# EAGLE library part 74HC393 (library IC)
Dual 4 Bit Counter Falling edge triggered Possitive logic Reset T varient is for Transistor logic other is CMOS
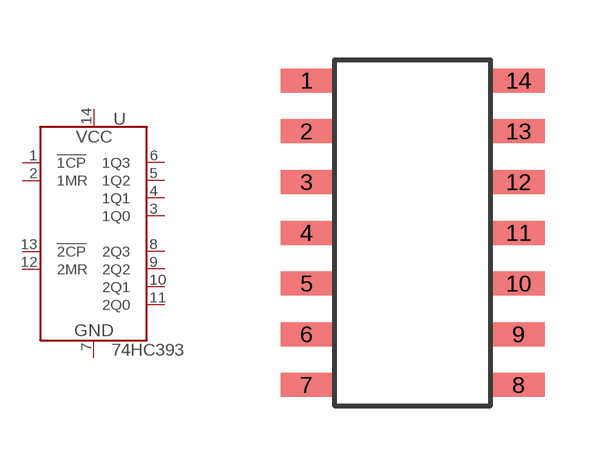
[diagram p14: symbol with the pads of SOIC-3.9MM-14; footprint SOIC-3.9MM-14]

Designator prefix U

## 74HC393D (MPN: 74HC393D,653), 74HC393TD  [SOIC-3.9MM-14]
1  !1CP
2  1MR
3  1Q0
4  1Q1
5  1Q2
6  1Q3
7  GND
8  2Q3
9  2Q2
10  2Q1
11  2Q0
12  2MR
13  !2CP
14  VCC

## Footprint SOIC-3.9MM-14 (pad centres in mm)
smd 1.3 x 0.6: 1 -2.65,3.81; 2 -2.65,2.54; 3 -2.65,1.27; 4 -2.65,0; 5 -2.65,-1.27; 6 -2.65,-2.54; 7 -2.65,-3.81; 8 2.65,-3.81; 9 2.65,-2.54; 10 2.65,-1.27; 11 2.65,0; 12 2.65,1.27; 13 2.65,2.54; 14 2.65,3.81